# Altium footprint library PcbLib2.PcbLib: 3 footprints
Each footprint in its own frame and in the unit in brackets; x right, y up, seen from the top. Pads: shape width x height; smd on the part's side, far side on the other; paste and mask are expansions set on the pad; w line width, h text height; cw(c..) or ccw(c..) is an arc to the next point about the centre after c.
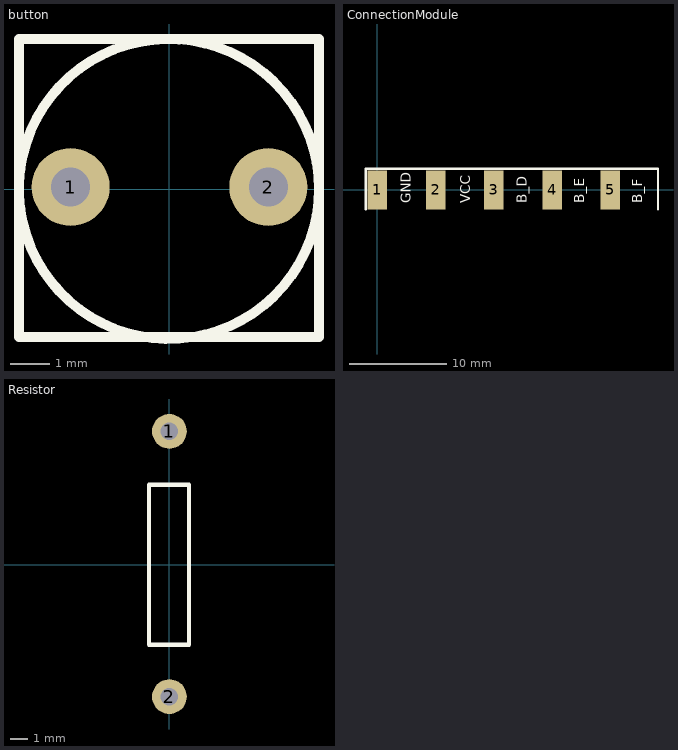
[diagram p0: the footprints below, top view; thin cyan lines are the x and y axes]

## button [mm]
pads (2):
  round 2 hole 1: 1(-2.525,0.05) 2(2.55,0.05)
Top Overlay:
  circle w0.254: c0,0 r3.85
  lines w0.254: -3.85,-3.8 -3.85,3.85 3.85,3.85 3.85,-3.8 -3.85,-3.8

## ConnectionModule [mm]
pads (5):
  rect 2x4 smd: 1(0,0) 2(6,0) 3(12,0) 4(18,0) 5(24,0)
Top Overlay:
  lines w0.24: -1.2,-2 -1.2,2.2 28.9,2.2 28.9,-2
  text "GND" at 3.446,-1.346 h1
  text "VCC" at 9.546,-1.346 h1
  text "B_D" at 15.379,-1.346 h1
  text "B_E" at 21.279,-1.346 h1
  text "B_F" at 27.279,-1.346 h1

## Resistor [mm]
pads (2):
  round 2 hole 1: 1(0.025,7.675) 2(0.025,-7.575)
Top Overlay:
  lines w0.254: -1.15,-4.6 1.15,-4.6 1.15,4.6 -1.15,4.6 -1.15,-4.6
3D body "R_D2.5_P15.24_0.25W_330_Ohm_MKV_Horizontal.step": height 2.3, standoff -3, extent -1.136,-7.92 1.15,7.92